# EAGLE library part TCN75AVUA713-VAO (library TCN75AVUA713-VAO)
Board Mount Temperature Sensors Automotive, 2-Wire Serial Temp Sensor/Thermal Monitor Source: Datasheet <http://ww1.microchip.com/downloads/en/DeviceDoc/21935D.pdf>
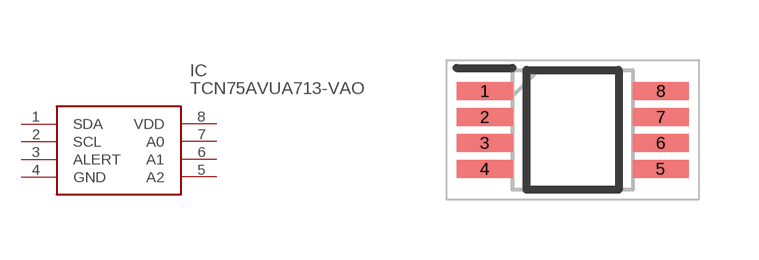
[diagram p0: symbol with the pads of SOP65P490X110-8N; footprint SOP65P490X110-8N]

Designator prefix IC

## TCN75AVUA713-VAO (Arrow_Part_Number: TCN75AVUA713-VAO; Arrow_Price-Stock: https://www.arrow.com/en/products/tcn75avua713-vao/microchip-technology; Description: Board Mount Temperature Sensors Automotive, 2-Wire Serial Temp Sensor/Thermal Monitor; Height: 1.1mm; Manufacturer_Name: Microchip; Manufacturer_Part_Number: TCN75AVUA713-VAO; Mouser_Part_Number: 579-TCN75AVUA713-VAO; Mouser_Price-Stock: https://www.mouser.co.uk/ProductDetail/Microchip-Technology/TCN75AVUA713-VAO?qs=5aG0NVq1C4yOgnS8t5srmQ%3D%3D)  [SOP65P490X110-8N]
1  SDA
2  SCL
3  ALERT
4  GND
5  A2
6  A1
7  A0
8  VDD

## Footprint SOP65P490X110-8N (pad centres in mm)
/MS
smd 1.4 x 0.45: 1 -2.2,0.975; 2 -2.2,0.325; 3 -2.2,-0.325; 4 -2.2,-0.975; 5 2.2,-0.975; 6 2.2,-0.325; 7 2.2,0.325; 8 2.2,0.975